# EAGLE library part MA06-2 (library esbd-connectors)
PIN HEADER
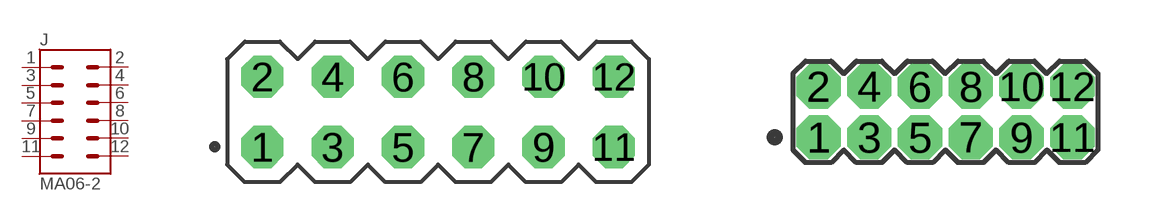
[diagram p25: symbol with the pads of MA06-2_TH_2.54MM; footprints MA06-2_TH_2.54MM, MA06-2_TH_1.27MM]

Designator prefix J

## MA06-2_TH_2.54MM  [MA06-2_TH_2.54MM]
1  1  pas
2  2  pas
3  3  pas
4  4  pas
5  5  pas
6  6  pas
7  7  pas
8  8  pas
9  9  pas
10  10  pas
11  11  pas
12  12  pas

## MA06-2_TH_1.27MM  [MA06-2_TH_1.27MM]
Pads as for MA06-2_TH_2.54MM

## MA06-2_SMD_1.27MM  [MA06-2_SMD_1.27MM]
Pads as for MA06-2_TH_2.54MM

## MA06-2_TH_SRH_2.54MM  [MA06-2_TH_SHR_2.54MM]
Pads as for MA06-2_TH_2.54MM

## Footprint MA06-2_TH_2.54MM (pad centres in mm)
PIN HEADER
drill 1.016 octagon: 1 -6.35,-1.27; 2 -6.35,1.27; 3 -3.81,-1.27; 4 -3.81,1.27; 5 -1.27,-1.27; 6 -1.27,1.27; 7 1.27,-1.27; 8 1.27,1.27; 9 3.81,-1.27; 10 3.81,1.27; 11 6.35,-1.27; 12 6.35,1.27

## Footprint MA06-2_TH_1.27MM (pad centres in mm)
PIN HEADER
drill 0.6 octagon: 1 -3.175,-0.635; 2 -3.175,0.635; 3 -1.905,-0.635; 4 -1.905,0.635; 5 -0.635,-0.635; 6 -0.635,0.635; 7 0.635,-0.635; 8 0.635,0.635; 9 1.905,-0.635; 10 1.905,0.635; 11 3.175,-0.635; 12 3.175,0.635

## Footprint MA06-2_SMD_1.27MM (pad centres in mm)
smd 0.76 x 2.4: 1 -3.175,-1.95; 2 -3.175,1.95; 3 -1.905,-1.95; 4 -1.905,1.95; 5 -0.635,-1.95; 6 -0.635,1.95; 7 0.635,-1.95; 8 0.635,1.95; 9 1.905,-1.95; 10 1.905,1.95; 11 3.175,-1.95; 12 3.175,1.95

## Footprint MA06-2_TH_SHR_2.54MM (pad centres in mm)
PIN HEADER
drill 1.016 octagon: 1 -6.35,-1.27; 2 -6.35,1.27; 3 -3.81,-1.27; 4 -3.81,1.27; 5 -1.27,-1.27; 6 -1.27,1.27; 7 1.27,-1.27; 8 1.27,1.27; 9 3.81,-1.27; 10 3.81,1.27; 11 6.35,-1.27; 12 6.35,1.27